# Altium footprint library ECEN_1400.PcbLib: 52 footprints (part 1 of 4)
Each footprint in its own frame and in the unit in brackets; x right, y up, seen from the top. Pads: shape width x height; smd on the part's side, far side on the other; paste and mask are expansions set on the pad; w line width, h text height; cw(c..) or ccw(c..) is an arc to the next point about the centre after c.
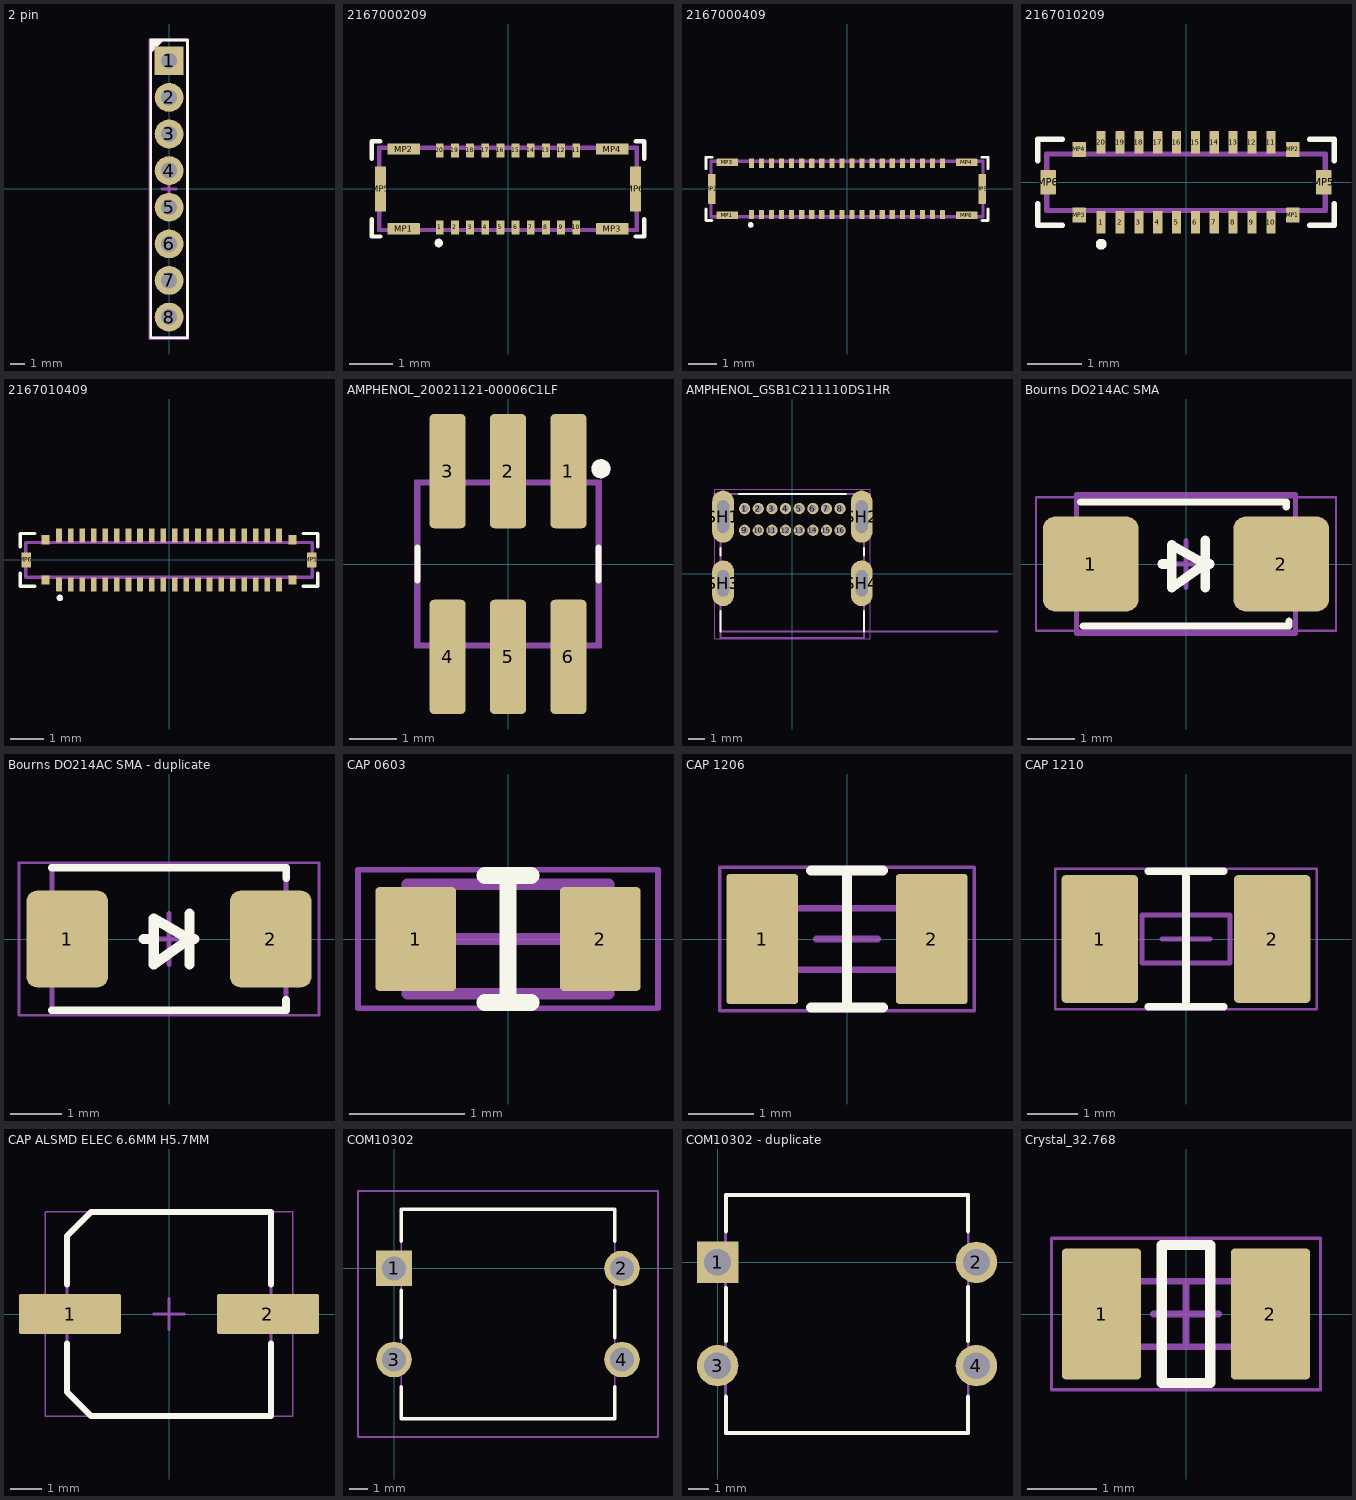
[diagram p0: the footprints below, top view; thin cyan lines are the x and y axes]

## 2 pin [mm] "2.54mm DIL PC TAIL PIN HEADER ASSEMBLY"
height 5
pads (8):
  rect 2x2 hole 1.1: 1(0,8.89)
  round 2 hole 1.1: 2(0,6.35) 3(0,3.81) 4(0,1.27) 5(0,-1.27) 6(0,-3.81) 7(0,-6.35) 8(0,-8.89)
Top Overlay:
  region: -1.23,10.35 -1.23,9.45 -0.33,10.35
  lines w0.2: -1.27,-10.33 1.27,-10.33 1.27,10.32 -1.27,10.32 -1.27,-10.33
Top Assembly:
  lines w0.2: -0.5,0 0.5,0 ; 0,-0.5 0,0.5 ; -1.27,-10.33 1.27,-10.33 1.27,10.32 -1.27,10.32 -1.27,-10.33
Top Courtyard:
  lines w0.1: -1.3,-10.4 1.3,-10.4 1.3,10.4 -1.3,10.4 -1.3,-10.4
Mechanical 20:
  lines w0.05: -1.363,-10.413 -1.363,10.4 1.35,10.4 1.35,-10.413 -1.363,-10.413
3D body "M20-7820842.step": height 8.5, standoff -3, extent -1.25,-10.36 1.25,10.36

## 2167000209 [mm]
pads (26):
  rrect10% 0.18x0.325 smd: 1(-1.575,-0.888) 2(-1.225,-0.888) 3(-0.875,-0.888) 4(-0.525,-0.888) 5(-0.175,-0.888) 6(0.175,-0.888) 7(0.525,-0.888) 8(0.875,-0.888) 9(1.225,-0.888) 10(1.575,-0.888) 11(1.575,0.888) 12(1.225,0.888) 13(0.875,0.888) 14(0.525,0.888) 15(0.175,0.888) 16(-0.175,0.888) 17(-0.525,0.888) 18(-0.875,0.888) 19(-1.225,0.888) 20(-1.575,0.888)
  rrect10% 0.75x0.26 smd: MP1(-2.41,-0.92) MP2(-2.41,0.92) MP3(2.41,-0.92) MP4(2.41,0.92)
  rrect10% 0.26x1.04 smd: MP5(-2.945,0) MP6(2.945,0)
Top Overlay:
  lines w0.1: -3.15,-0.7 -3.15,-1.1 -2.95,-1.1 ; -3.15,0.7 -3.15,1.1 -2.95,1.1 ; 2.95,-1.1 3.15,-1.1 3.15,-0.7 ; 2.95,1.1 3.15,1.1 3.15,0.7 ; -1.6,-1.3 cw(c-1.6,-1.25) -1.6,-1.2 cw(c-1.6,-1.25) -1.6,-1.3
Mechanical 15:
  lines w0.1: -2.975,-0.95 -2.975,0.95 2.975,0.95 2.975,-0.95 -2.975,-0.95
Mechanical 20:
  lines w0.05: -3,-0.975 3,-0.975 3,0.975 -3,0.975 -3,-0.975

## 2167000409 [mm]
pads (46):
  rrect10% 0.18x0.325 smd: 1(-3.325,-0.887) 2(-2.975,-0.887) 3(-2.625,-0.887) 4(-2.275,-0.887) 5(-1.925,-0.887) 6(-1.575,-0.887) 7(-1.225,-0.887) 8(-0.875,-0.887) 9(-0.525,-0.887) 10(-0.175,-0.887) 11(0.175,-0.887) 12(0.525,-0.887) 13(0.875,-0.887) 14(1.225,-0.887) 15(1.575,-0.887) 16(1.925,-0.887) 17(2.275,-0.887) 18(2.625,-0.887) 19(2.975,-0.887) 20(3.325,-0.887) 21(3.325,0.888) 22(2.975,0.888) 23(2.625,0.888) 24(2.275,0.888) 25(1.925,0.888) 26(1.575,0.888) 27(1.225,0.888) 28(0.875,0.888) 29(0.525,0.888) 30(0.175,0.888) 31(-0.175,0.888) 32(-0.525,0.888) 33(-0.875,0.888) 34(-1.225,0.888) 35(-1.575,0.888) 36(-1.925,0.888) 37(-2.275,0.888) 38(-2.625,0.888) 39(-2.975,0.888) 40(-3.325,0.888)
  rrect10% 0.75x0.26 smd: MP1(-4.16,-0.92) MP3(-4.16,0.92) MP4(4.16,0.92) MP6(4.16,-0.92)
  rrect10% 0.26x1.04 smd: MP2(-4.695,0) MP5(4.695,0)
Top Overlay:
  lines w0.1: -4.9,-0.7 -4.9,-1.1 -4.7,-1.1 ; -4.9,0.7 -4.9,1.1 -4.7,1.1 ; 4.7,-1.1 4.9,-1.1 4.9,-0.7 ; 4.7,1.1 4.9,1.1 4.9,0.7 ; -3.35,-1.3 cw(c-3.35,-1.25) -3.35,-1.2 cw(c-3.35,-1.25) -3.35,-1.3
Mechanical 15:
  lines w0.1: -4.725,-0.95 -4.725,0.95 4.725,0.95 4.725,-0.95 -4.725,-0.95
Mechanical 20:
  lines w0.05: -4.75,-1 4.75,-1 4.75,1 -4.75,1 -4.75,-1

## 2167010209 [mm]
pads (26):
  rrect10% 0.17x0.42 smd: 1(-1.575,-0.74) 2(-1.225,-0.74) 3(-0.875,-0.74) 4(-0.525,-0.74) 5(-0.175,-0.74) 6(0.175,-0.74) 7(0.525,-0.74) 8(0.875,-0.74) 9(1.225,-0.74) 10(1.575,-0.74) 11(1.575,0.74) 12(1.225,0.74) 13(0.875,0.74) 14(0.525,0.74) 15(0.175,0.74) 16(-0.175,0.74) 17(-0.525,0.74) 18(-0.875,0.74) 19(-1.225,0.74) 20(-1.575,0.74)
  rrect10% 0.25x0.28 smd: MP1(1.985,-0.61) MP2(1.985,0.61) MP3(-1.985,-0.61) MP4(-1.985,0.61)
  rrect10% 0.29x0.45 smd: MP5(2.56,0) MP6(-2.56,0)
Top Overlay:
  lines w0.1: -2.75,-0.4 -2.75,-0.8 -2.3,-0.8 ; -2.75,0.4 -2.75,0.8 -2.3,0.8 ; 2.3,-0.8 2.75,-0.8 2.75,-0.4 ; 2.3,0.8 2.75,0.8 2.75,0.4 ; -1.575,-1.2 ccw(c-1.575,-1.15) -1.575,-1.1 ccw(c-1.575,-1.15) -1.575,-1.2
Mechanical 15:
  lines w0.1: -2.585,-0.525 -2.585,0.525 2.585,0.525 2.585,-0.525 -2.585,-0.525
Mechanical 20:
  lines w0.05: -2.6,-0.55 2.6,-0.55 2.6,0.55 -2.6,0.55 -2.6,-0.55

## 2167010409 [mm]
pads (46):
  rrect10% 0.17x0.42 smd: 1(-3.325,-0.74) 2(-2.975,-0.74) 3(-2.625,-0.74) 4(-2.275,-0.74) 5(-1.925,-0.74) 6(-1.575,-0.74) 7(-1.225,-0.74) 8(-0.875,-0.74) 9(-0.525,-0.74) 10(-0.175,-0.74) 11(0.175,-0.74) 12(0.525,-0.74) 13(0.875,-0.74) 14(1.225,-0.74) 15(1.575,-0.74) 16(1.925,-0.74) 17(2.275,-0.74) 18(2.625,-0.74) 19(2.975,-0.74) 20(3.325,-0.74) 21(3.325,0.74) 22(2.975,0.74) 23(2.625,0.74) 24(2.275,0.74) 25(1.925,0.74) 26(1.575,0.74) 27(1.225,0.74) 28(0.875,0.74) 29(0.525,0.74) 30(0.175,0.74) 31(-0.175,0.74) 32(-0.525,0.74) 33(-0.875,0.74) 34(-1.225,0.74) 35(-1.575,0.74) 36(-1.925,0.74) 37(-2.275,0.74) 38(-2.625,0.74) 39(-2.975,0.74) 40(-3.325,0.74)
  rrect10% 0.25x0.28 smd: MP1(3.735,-0.61) MP2(3.735,0.61) MP3(-3.735,-0.61) MP4(-3.735,0.61)
  rrect10% 0.29x0.45 smd: MP5(4.31,0) MP6(-4.31,0)
Top Overlay:
  lines w0.1: -4.5,-0.4 -4.5,-0.8 -4.05,-0.8 ; -4.5,0.4 -4.5,0.8 -4.05,0.8 ; 4.05,-0.8 4.5,-0.8 4.5,-0.4 ; 4.05,0.8 4.5,0.8 4.5,0.4 ; -3.3,-1.2 ccw(c-3.3,-1.15) -3.3,-1.1 ccw(c-3.3,-1.15) -3.3,-1.2
Mechanical 15:
  lines w0.1: -4.335,-0.525 4.335,-0.525 4.335,0.525 -4.335,0.525 -4.335,-0.525
Mechanical 20:
  lines w0.05: -4.35,-0.55 4.35,-0.55 4.35,0.55 -4.35,0.55 -4.35,-0.55

## AMPHENOL_20021121-00006C1LF [mm]
height 4.55
pads (6):
  rrect25% 0.76x2.4 smd: 1(1.27,1.95) 2(0,1.95) 3(-1.27,1.95) 4(-1.27,-1.95) 5(0,-1.95) 6(1.27,-1.95)
Top Overlay:
  circle w0.2: c1.95,2 r0.1
  lines w0.127: -1.905,-0.35 -1.905,0.35 ; 1.905,-0.35 1.905,0.35
Mechanical 13:
  circle w0.2: c1.95,2 r0.1
  lines w0.127: -1.905,-1.715 -1.905,1.715 1.905,1.715 1.905,-1.715 -1.905,-1.715
Mechanical 15:
  lines w0.05: -1.95,-1.75 -1.95,1.75 1.95,1.75 1.95,-1.75 -1.95,-1.75
Mechanical 20:
  lines w0.05: -1.95,-1.75 1.95,-1.75 1.95,1.75 -1.95,1.75 -1.95,-1.75
3D body "step_temp.STEP": height 4.55, standoff 0, extent -1.905,-2.75 1.905,2.75

## AMPHENOL_GSB1C211110DS1HR [mm]
height 3.35
pads (20):
  round 0.7 hole 0.45 mask+0.05: 1(-2.975,4.05) 2(-2.125,4.05) 3(-1.275,4.05) 4(-0.425,4.05) 5(0.425,4.05) 6(1.275,4.05) 7(2.125,4.05) 8(2.975,4.05) 9(-2.975,2.7) 10(-2.125,2.7) 11(-1.275,2.7) 12(-0.425,2.7) 13(0.425,2.7) 14(1.275,2.7) 15(2.125,2.7) 16(2.975,2.7)
  oval 1.35x3.25 hole 0.75 slot 2.05 at 90 deg: SH1(-4.32,3.55) SH2(4.32,3.55)
  oval 1.35x2.85 hole 0.75 slot 1.65 at 90 deg: SH3(-4.32,-0.6) SH4(4.32,-0.6)
Top Overlay:
  lines w0.127: -4.47,-3.6 -4.47,-2.345 ; -4.47,1.145 -4.47,1.605 ; -3.325,4.97 3.325,4.97 ; 4.47,-3.6 4.47,-2.345 ; 4.47,1.145 4.47,1.605
Mechanical 13:
  lines w0.127: 12.75,-3.6 -4.47,-3.6 ; -4.47,-3.6 -4.47,-4 4.47,-4 4.47,2.673 4.845,2.673 4.845,4.97 -4.845,4.97 -4.845,2.673 -4.47,2.673 -4.47,-3.6
  text "PCB EDGE" at 5.5,-3.35 h1.02
Mechanical 15:
  lines w0.05: -4.85,-4.05 -4.85,5.25 4.85,5.25 4.85,-4.05 -4.85,-4.05
Mechanical 20:
  lines w0.05: -4.85,-4.05 4.85,-4.05 4.85,5.25 -4.85,5.25 -4.85,-4.05
3D body: height 0.25, standoff 0, extent -4.847,-3.7 4.85,5.27

## Bourns DO214AC SMA [mm] "Molded Diode, 2-Leads, Body 4.30x2.60mm, IPC Medium Density"
height 2.4
pads (2):
  rrect25% 2x2 smd: 1(-2,0) 2(2,0)
Top Overlay:
  lines w0.15: -2.215,1.3 2.105,1.3 ; -2.16,-1.3 2.16,-1.3 2.16,-1.2 ; 2.105,1.2 2.105,1.25
  lines w0.2: -0.5,0 -0.3,0 ; 0.4,-0.5 0.4,0.5 ; 0.5,0 0.4,0 ; 0.4,0 -0.3,-0.5 -0.3,0.4 0.4,0
Mechanical 13:
  lines w0.1: -2.3,-1.46 2.3,-1.46 2.3,1.46 -2.3,1.46 -2.3,-1.46
Mechanical 15:
  lines w0.05: -3.15,-1.4 3.15,-1.4 3.15,1.4 -3.15,1.4 -3.15,-1.4
  lines w0.1: -0.5,0 0.5,0 ; 0,-0.5 0,0.5
3D body "SMA.STEP": height 2.4, standoff 0, extent -2.6,-1.375 2.6,1.375

## Bourns DO214AC SMA - duplicate [mm] "Molded Diode, 2-Leads, Body 4.30x2.60mm, IPC Medium Density"
height 2.4
pads (2):
  rrect25% 1.6x1.9 smd: 1(-2,0) 2(2,0)
Top Overlay:
  lines w0.15: -2.3,-1.4 2.3,-1.4 2.3,-1.2 ; -2.3,1.4 2.305,1.4 2.305,1.2
  lines w0.2: -0.5,0 -0.3,0 ; 0.4,-0.5 0.4,0.5 ; 0.5,0 0.4,0 ; 0.4,0 -0.3,-0.5 -0.3,0.4 0.4,0
Mechanical 13:
  lines w0.1: -2.3,-1.46 2.3,-1.46 2.3,1.46 -2.3,1.46 -2.3,-1.46
Mechanical 15:
  lines w0.05: -2.95,-1.5 2.95,-1.5 2.95,1.5 -2.95,1.5 -2.95,-1.5
  lines w0.1: -0.5,0 0.5,0 ; 0,-0.5 0,0.5
3D body "SMA.STEP": height 2.4, standoff 0, extent -2.6,-1.375 2.6,1.375

## CAP 0603 [mm] "Chip Resistor, 2-Leads, Body 1.60x0.80mm"
height 0.45
pads (2):
  rrect10% 0.7x0.9 smd: 1(-0.8,0) 2(0.8,0)
Top Overlay:
  lines w0.15: -0.2,-0.55 0.2,-0.55 ; -0.2,0.55 0.2,0.55 ; 0,-0.55 0,0.55
Mechanical 13:
  lines w0.1: -0.875,-0.475 0.875,-0.475 0.875,0.475 -0.875,0.475 -0.875,-0.475
Mechanical 15:
  lines w0.05: -1.3,-0.6 1.3,-0.6 1.3,0.6 -1.3,0.6 -1.3,-0.6
  lines w0.1: -0.475,0 0.475,0 ; 0,-0.475 0,0.475
3D body "0603 resistor.STEP": height 0.45, standoff 0, extent -0.8,-0.4 0.8,0.4

## CAP 1206 [mm] "Chip Resistor, 2-Leads, Body 1.60x0.80mm"
height 0.45
pads (2):
  rrect10% 1.1x2 smd: 1(-1.3,0) 2(1.3,0)
Top Overlay:
  lines w0.15: -0.55,-1.05 0.55,-1.05 ; -0.55,1.05 0.55,1.05 ; 0,-1.05 0,1
Mechanical 13:
  lines w0.1: -0.875,-0.475 0.875,-0.475 0.875,0.475 -0.875,0.475 -0.875,-0.475
Mechanical 15:
  lines w0.05: -1.95,-1.1 1.95,-1.1 1.95,1.1 -1.95,1.1 -1.95,-1.1
  lines w0.1: -0.475,0 0.475,0 ; 0,-0.475 0,0.475
Mechanical 20:
  lines w0.05: -1.95,-1.1 1.95,-1.1 1.95,1.1 -1.95,1.1 -1.95,-1.1
3D body "0603 resistor.STEP": height 0.45, standoff 0, extent -0.8,-0.4 0.8,0.4

## CAP 1210 [mm] "Chip Resistor, 2-Leads, Body 1.60x0.80mm"
height 0.45
pads (2):
  rrect10% 1.52x2.54 smd: 1(-1.715,0) 2(1.715,0)
Top Overlay:
  lines w0.15: -0.75,-1.35 0.75,-1.35 ; -0.75,1.35 0.75,1.35 ; 0,-1.35 0,1.35
Mechanical 13:
  lines w0.1: -0.875,-0.475 -0.875,0.475 0.875,0.475 0.875,-0.475 -0.875,-0.475
Mechanical 15:
  lines w0.05: -2.6,-1.4 -2.6,1.4 2.6,1.4 2.6,-1.4 -2.6,-1.4
  lines w0.1: -0.475,0 0.475,0 ; 0,-0.475 0,0.475
3D body "0603 resistor.STEP": height 0.45, standoff 0, extent -0.8,-0.4 0.8,0.4

## CAP ALSMD ELEC 6.6MM H5.7MM [mm] "Aluminum SMD Electrolytic Capacitor, 6.60mm Land Size, 6.30mm Diameter, 5.70mm Height, 8.00mm Maximum Leads Span"
height 0.65
pads (2):
  rrect10% 3.3x1.3 smd: 1(-3.2,0) 2(3.2,0)
Top Overlay:
  lines w0.2: -3.3,-0.95 -3.3,-2.512 -2.512,-3.3 3.3,-3.3 3.3,-0.95 ; -3.3,0.95 -3.3,2.512 -2.512,3.3 3.3,3.3 3.3,0.95
Mechanical 13:
  lines w0.1: -3.3,-2.512 -2.512,-3.3 3.3,-3.3 3.3,3.3 -2.512,3.3 -3.3,2.512 -3.3,-2.512
Mechanical 15:
  lines w0.05: -4,-3.3 4,-3.3 4,3.3 -4,3.3 -4,-3.3
  lines w0.1: -0.5,0 0.5,0 ; 0,-0.5 0,0.5
Mechanical 20:
  lines w0.05: -4,-3.3 4,-3.3 4,3.3 -4,3.3 -4,-3.3
3D body ".STEP": height 5.7, standoff 0, extent -4,-3.3 4,3.3

## COM10302 [mm]
pads (4):
  rect 1.95x1.95 hole 1.3: 1(0,0)
  round 1.95 hole 1.3: 2(12.5,0) 3(0,-5) 4(12.5,-5)
Top Overlay:
  lines w0.2: 0.4,-6.5 0.4,-8.25 12.1,-8.25 12.1,-6.5 ; 0.4,-3.8 0.4,-1.2 ; 0.4,1.5 0.4,3.25 12.1,3.25 12.1,1.5 ; 12.1,-3.8 12.1,-1.2
Mechanical 15:
  lines w0.1: 0.4,-8.25 0.4,3.25 12.1,3.25 12.1,-8.25 0.4,-8.25
Mechanical 20:
  lines w0.1: -1.975,-9.25 -1.975,4.25 14.475,4.25 14.475,-9.25 -1.975,-9.25

## COM10302 - duplicate [mm]
pads (4):
  rect 2x2 hole 1.3: 1(0,0)
  round 2 hole 1.3: 2(12.5,0) 3(0,-5) 4(12.5,-5)
Top Overlay:
  lines w0.2: 0.4,-6.5 0.4,-8.25 12.1,-8.25 12.1,-6.5 ; 0.4,-3.8 0.4,-1.25 ; 0.4,1.5 0.4,3.25 12.1,3.25 12.1,1.5 ; 12.1,-3.8 12.1,-1.2
Mechanical 15:
  lines w0.1: 0.4,-8.25 0.4,3.25 12.1,3.25 12.1,-8.25 0.4,-8.25
Mechanical 20:
  lines w0.05: 0.35,3.3 0.35,-8.3 12.15,-8.3 12.15,3.3
  lines w0.1: 0.35,3.3 12.15,3.3

## Crystal_32.768 [mm] "Chip Resistor, 2-Leads, Body 1.60x0.80mm"
height 0.45
pads (2):
  rrect10% 1.15x1.9 smd: 1(-1.225,0) 2(1.225,0)
Top Overlay:
  lines w0.15: -0.35,-1 0.35,-1 0.35,1 -0.35,1 -0.35,-1
Mechanical 13:
  lines w0.1: -0.875,-0.475 -0.875,0.475 0.875,0.475 0.875,-0.475 -0.875,-0.475
Mechanical 15:
  lines w0.05: -1.95,-1.1 1.95,-1.1 1.95,1.1 -1.95,1.1 -1.95,-1.1
  lines w0.1: -0.475,0 0.475,0 ; 0,-0.475 0,0.475
3D body "0603 resistor.STEP": height 0.45, standoff 0, extent -0.8,-0.4 0.8,0.4